# Altium footprint library LEDs.PcbLib: 4 footprints
Each footprint in its own frame and in the unit in brackets; x right, y up, seen from the top. Pads: shape width x height; smd on the part's side, far side on the other; paste and mask are expansions set on the pad; w line width, h text height; cw(c..) or ccw(c..) is an arc to the next point about the centre after c.
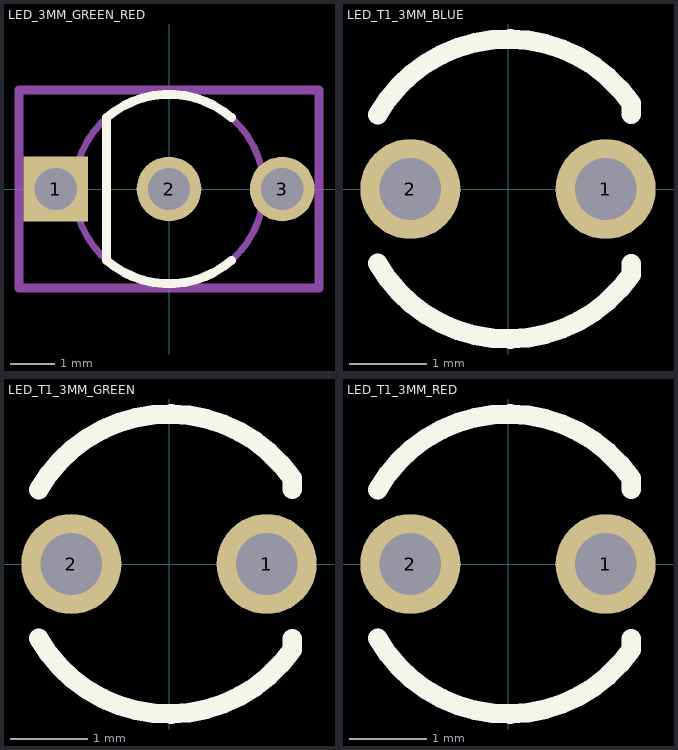
[diagram p0: the footprints below, top view; thin cyan lines are the x and y axes]

## LED_3MM_GREEN_RED [mm]
pads (3):
  rect 1.45x1.45 hole 0.95 paste-2539.97 mask+0: 1(-2.54,0)
  round 1.45 hole 0.95 paste-2539.97 mask+0: 2(0,0) 3(2.54,0)
Top Overlay:
  lines w0.2: -1.4,-1.6 ccw(c0,-0.001) 1.4,-1.6 ; -1.4,-1.55 -1.4,1.55 ; -1.4,1.6 cw(c0,0.001) 1.4,1.6
Top Assembly:
  lines w0.2: -3.365,-2.225 -3.365,2.225 3.365,2.225 3.365,-2.225 -3.365,-2.225
  text ".Designator" at 0,-0.001 h1
Top 3D Body:
  circle w0.15: c0,0 r2.125
Top Courtyard:
  lines w0.2: -3.365,-2.225 -3.365,2.225 3.365,2.225 3.365,-2.225 -3.365,-2.225
Top Component Center:
  lines w0.1: -0.5,0 0.5,0 ; 0,-0.5 0,0.5
3D body "LED_BRANCO_3T.SLDPRT": height 6.53, standoff -4, extent -2.79,-1.999 2.79,1.999

## LED_T1_3MM_BLUE [mm]
height 10.5
pads (2):
  round 1.3 hole 0.8: 1(1.27,0) 2(-1.27,0)
Top Overlay:
  lines w0.254: -1.693,-0.967 ccw(c0,0) 1.601,-1.114 ; -1.693,0.967 cw(c0,0) 1.601,1.114 ; 1.601,-1.114 1.601,-0.971 ; 1.601,0.971 1.601,1.114
3D body "LED D3 - Blue_cutted.step": height 5.3, standoff -5.1, extent -1.95,-1.95 1.62,1.95

## LED_T1_3MM_GREEN [mm]
height 10.5
pads (2):
  round 1.3 hole 0.8: 1(1.27,0) 2(-1.27,0)
Top Overlay:
  lines w0.254: -1.693,-0.967 ccw(c0,0) 1.601,-1.114 1.601,-0.971 ; -1.693,0.967 cw(c0,0) 1.601,1.114 1.601,0.971
3D body "LED D3 - Green_cutted.step": height 5.3, standoff -5.1, extent -1.95,-1.95 1.62,1.95

## LED_T1_3MM_RED [mm]
height 10.5
pads (2):
  round 1.3 hole 0.8: 1(1.27,0) 2(-1.27,0)
Top Overlay:
  lines w0.254: -1.693,-0.967 ccw(c0,0) 1.601,-1.114 1.601,-0.971 ; -1.693,0.967 cw(c0,0) 1.601,1.114 1.601,0.971
3D body "LED D3 - Red_cutted.step": height 5.3, standoff -5.1, extent -1.95,-1.95 1.62,1.95